# EAGLE library part ИВ-6 (library My lib)
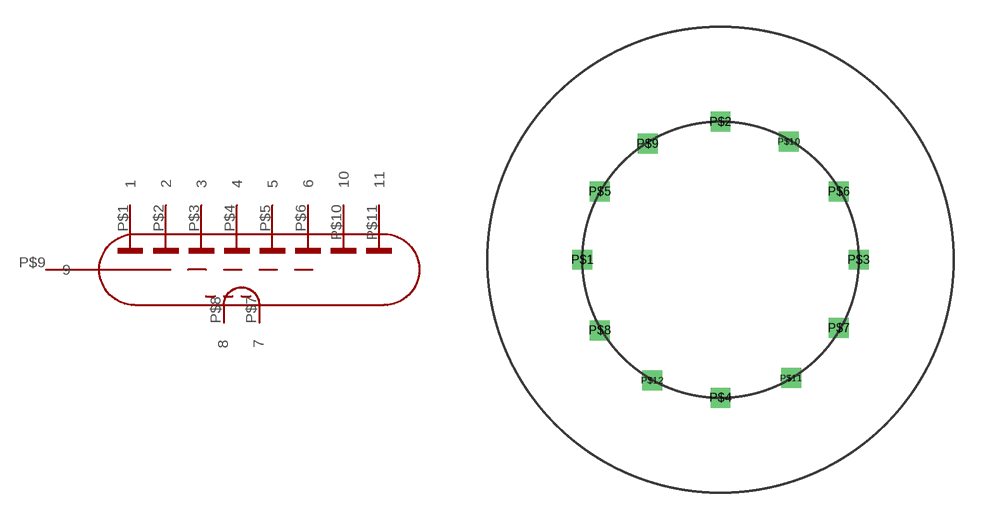
[diagram p4: symbol with the pads of ИВ-6; footprint ИВ-6]

Designator prefix -

## ИВ-6  [ИВ-6]
P$1  1
P$2  2
P$3  3
P$4  4
P$5  5
P$6  6
P$7  7
P$8  8
P$9  9
P$10  10
P$11  11

## Footprint ИВ-6 (pad centres in mm)
drill 0.6 square: P$1 -7.7,0; P$2 0,7.7; P$3 7.7,0; P$4 0,-7.7; P$5 -6.731,3.81; P$6 6.604,3.81; P$7 6.604,-3.81; P$8 -6.731,-3.937; P$9 -4.064,6.477; P$10 3.81,6.604; P$11 3.937,-6.604; P$12 -3.81,-6.731